# Altium schematic symbol library Interface.SchLib: 40 symbols
Pins are listed as number, name and electrical type; pins without a type are passive.

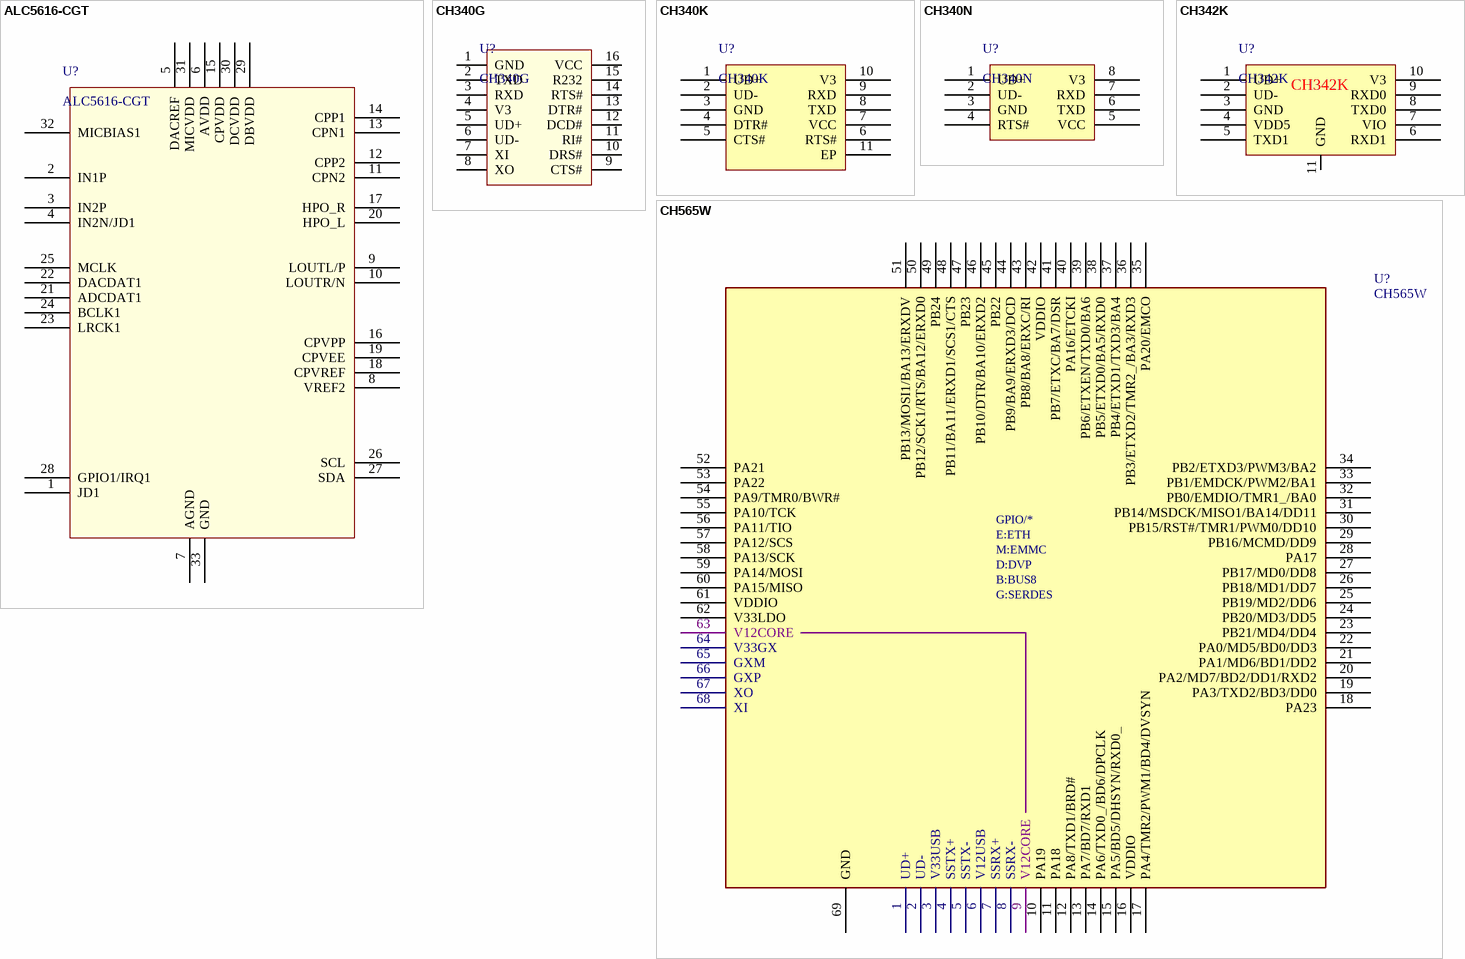
[diagram p0: symbols ALC5616-CGT to CH565W]

## ALC5616-CGT
designator U?
footprint QFN-32-1EP_4x4mm_P0.4mm_EP2.7x2.7mm_ThermalVias (QFN, 32-Leads, Body 4.00x4.00mm, Pitch 0.40mm, Thermal Pad 2.70x2.70mm, IPC Low Density)
pins: 1 JD1, 2 IN1P, 3 IN2P, 4 IN2N/JD1, 5 DACREF, 6 AVDD, 7 AGND, 8 VREF2, 9 LOUTL/P, 10 LOUTR/N, 11 CPN2, 12 CPP2, 13 CPN1, 14 CPP1, 15 CPVDD, 16 CPVPP, 17 HPO_R, 18 CPVREF, 19 CPVEE, 20 HPO_L, 21 ADCDAT1, 22 DACDAT1, 23 LRCK1, 24 BCLK1, 25 MCLK, 26 SCL, 27 SDA, 28 GPIO1/IRQ1, 29 DBVDD, 30 DCVDD, 31 MICVDD, 32 MICBIAS1, 33 GND

## CH340G
designator U?
USB转串口
footprint SO-16_3.9mm_P1.27mm (SOIC, 16-Leads, Body 9.90x3.90mm, Pitch 1.27mm, IPC Medium Density)
pins: 1 GND, 2 TXD, 3 RXD, 4 V3, 5 UD+, 6 UD-, 7 XI, 8 XO, 9 CTS#, 10 DRS#, 11 RI#, 12 DCD#, 13 DTR#, 14 RTS#, 15 R232, 16 VCC

## CH340K
designator U?
USB 转串口芯片 CH340
footprint SSOP-10_L5.0-W3.9-P1.00-LS6.0-BL-EP
pins: 1 UD+, 2 UD-, 3 GND, 4 DTR#, 5 CTS#, 6 RTS#, 7 VCC, 8 TXD, 9 RXD, 10 V3, 11 EP

## CH340N
designator U?
USB 转串口芯片 CH340
footprint SO-8_3.9x4.9mm_P1.27mm (SOIC, 8-Leads, Body 4.9x3.90mm, Pitch 1.27mm, IPC Medium Density)
pins: 1 UD+, 2 UD-, 3 GND, 4 RTS#, 5 VCC, 6 TXD, 7 RXD, 8 V3

## CH342K
designator U?
USB 转双串口芯片 CH342
footprint SSOP-10_L5.0-W3.9-P1.00-LS6.0-BL-EP
pins: 1 UD+, 2 UD-, 3 GND, 4 VDD5, 5 TXD1, 6 RXD1, 7 VIO, 8 TXD0, 9 RXD0, 10 V3, 11 GND

## CH565W
designator U?
32bit RISC-V MCU with USB 3.0 SS/HS & 4*UART & ETH & DVP
footprint QFN-68_L8.0-W8.0-P0.40-BL-EP6.0
pins: 1 UD+, 2 UD-, 3 V33USB, 4 SSTX+, 5 SSTX-, 6 V12USB, 7 SSRX+, 8 SSRX-, 9 V12CORE, 10 PA19, 11 PA18, 12 PA8/TXD1/BRD#, 13 PA7/BD7/RXD1, 14 PA6/TXD0_/BD6/DPCLK, 15 PA5/BD5/DHSYN/RXD0_, 16 VDDIO, 17 PA4/TMR2/PWM1/BD4/DVSYN, 18 PA23, 19 PA3/TXD2/BD3/DD0, 20 PA2/MD7/BD2/DD1/RXD2, 21 PA1/MD6/BD1/DD2, 22 PA0/MD5/BD0/DD3, 23 PB21/MD4/DD4, 24 PB20/MD3/DD5, 25 PB19/MD2/DD6, 26 PB18/MD1/DD7, 27 PB17/MD0/DD8, 28 PA17, 29 PB16/MCMD/DD9, 30 PB15/RST#/TMR1/PWM0/DD10, 31 PB14/MSDCK/MISO1/BA14/DD11, 32 PB0/EMDIO/TMR1_/BA0, 33 PB1/EMDCK/PWM2/BA1, 34 PB2/ETXD3/PWM3/BA2, 35 PA20/EMCO, 36 PB3/ETXD2/TMR2_/BA3/RXD3, 37 PB4/ETXD1/TXD3/BA4, 38 PB5/ETXD0/BA5/RXD0, 39 PB6/ETXEN/TXD0/BA6, 40 PA16/ETCKI, 41 PB7/ETXC/BA7/DSR, 42 VDDIO, 43 PB8/BA8/ERXC/RI, 44 PB9/BA9/ERXD3/DCD, 45 PB22, 46 PB10/DTR/BA10/ERXD2, 47 PB23, 48 PB11/BA11/ERXD1/SCS1/CTS, 49 PB24, 50 PB12/SCK1/RTS/BA12/ERXD0, 51 PB13/MOSI1/BA13/ERXDV, 52 PA21, 53 PA22, 54 PA9/TMR0/BWR#, 55 PA10/TCK, 56 PA11/TIO, 57 PA12/SCS, 58 PA13/SCK, 59 PA14/MOSI, 60 PA15/MISO, 61 VDDIO, 62 V33LDO, 63 V12CORE, 64 V33GX, 65 GXM, 66 GXP, 67 XO, 68 XI, 69 GND (power)
2 alternate drawings of the same symbol
text: GPIO/*; E:ETH; M:EMMC; D:DVP; B:BUS8; G:SERDES

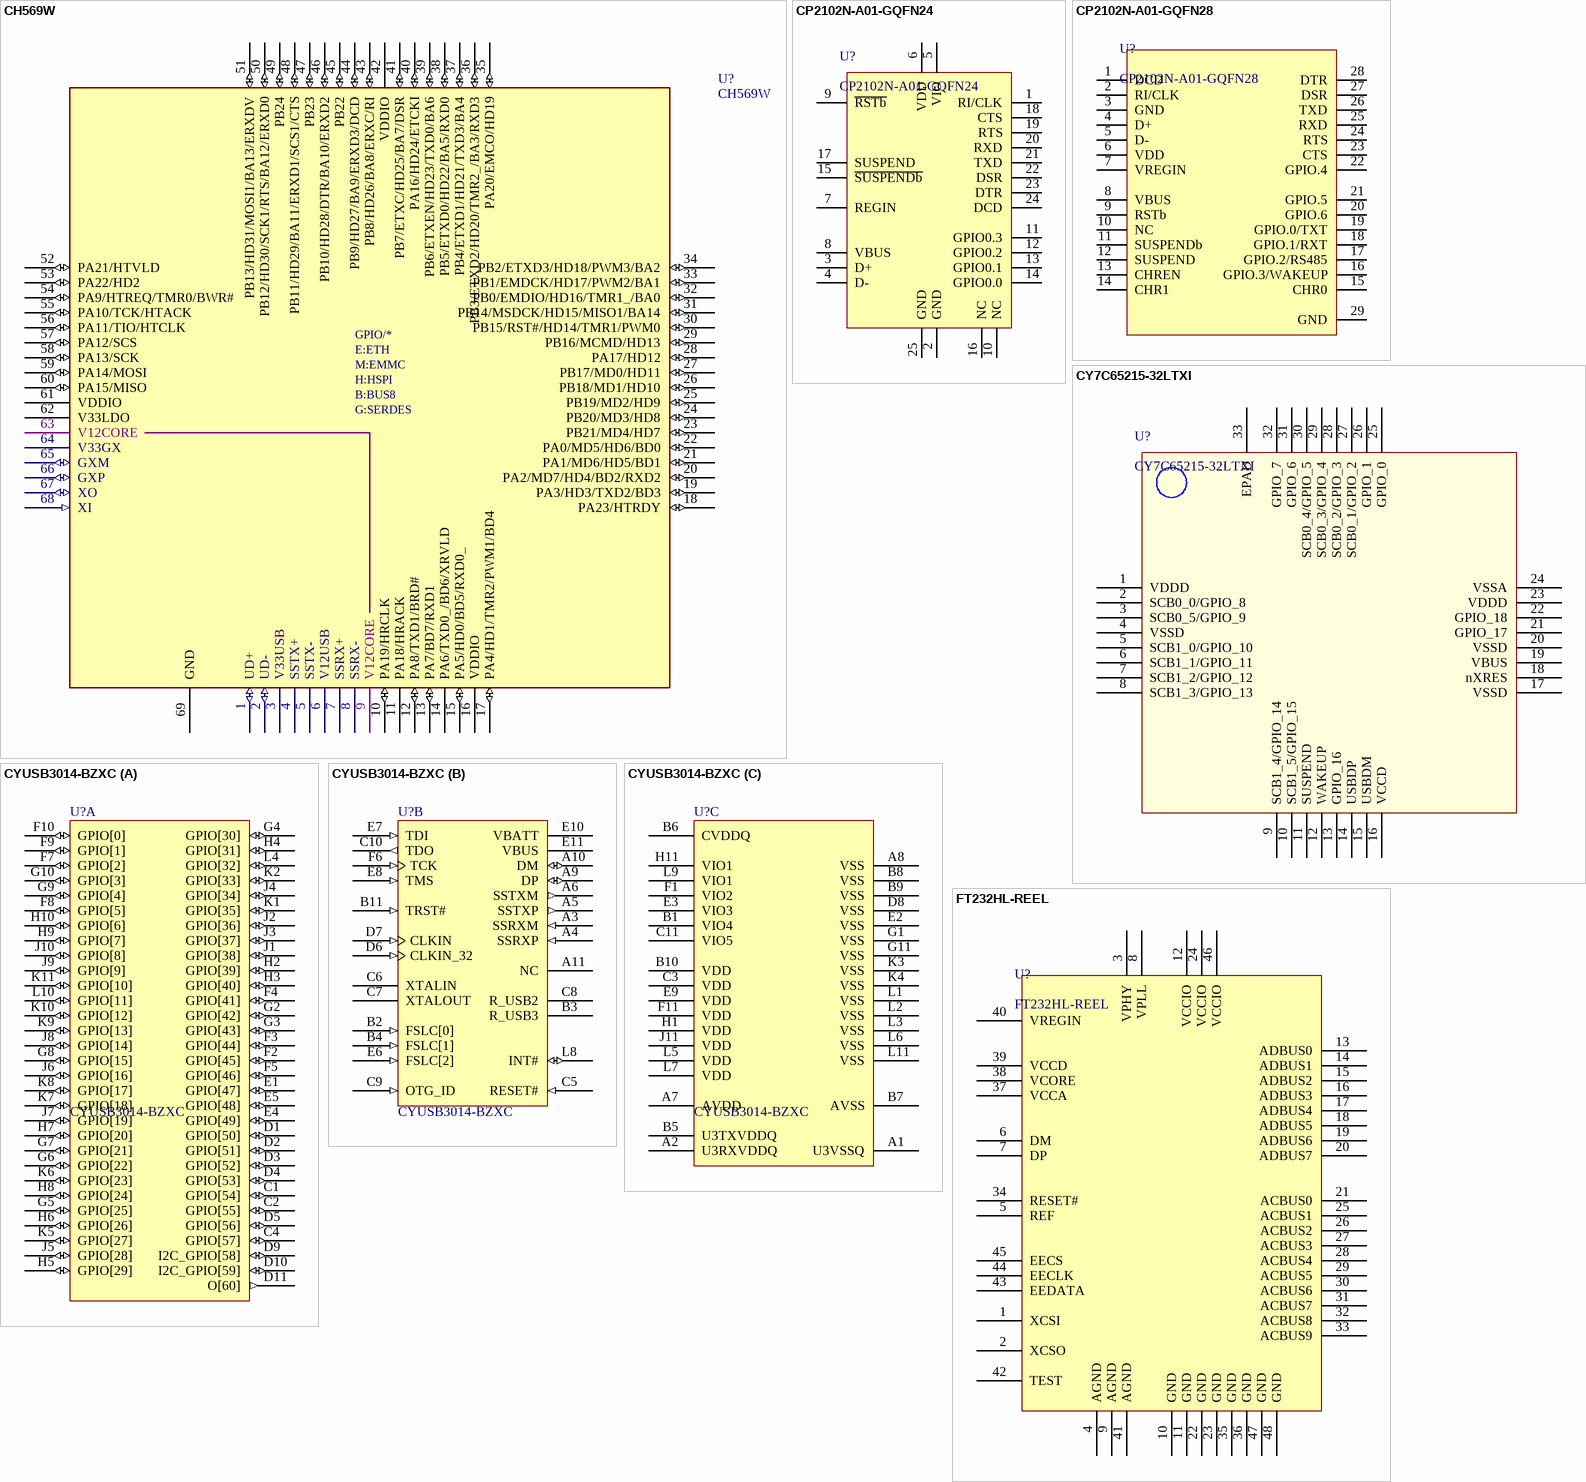
[diagram p1: symbols CH569W to FT232HL-REEL]

## CH569W
designator U?
32bit RISC-V MCU with USB 3.0 SS/HS & 4*UART & ETH & HSPI
footprint QFN-68_L8.0-W8.0-P0.40-BL-EP6.0
pins: 1 UD+ (io), 2 UD- (io), 3 V33USB (power), 4 SSTX+, 5 SSTX-, 6 V12USB (power), 7 SSRX+, 8 SSRX-, 9 V12CORE (power), 10 PA19/HRCLK (io), 11 PA18/HRACK, 12 PA8/TXD1/BRD# (io), 13 PA7/BD7/RXD1 (io), 14 PA6/TXD0_/BD6/XRVLD, 15 PA5/HD0/BD5/RXD0_ (io), 16 VDDIO (power), 17 PA4/HD1/TMR2/PWM1/BD4 (io), 18 PA23/HTRDY (io), 19 PA3/HD3/TXD2/BD3 (io), 20 PA2/MD7/HD4/BD2/RXD2 (io), 21 PA1/MD6/HD5/BD1 (io), 22 PA0/MD5/HD6/BD0 (io), 23 PB21/MD4/HD7 (io), 24 PB20/MD3/HD8 (io), 25 PB19/MD2/HD9 (io), 26 PB18/MD1/HD10 (io), 27 PB17/MD0/HD11 (io), 28 PA17/HD12 (io), 29 PB16/MCMD/HD13 (io), 30 PB15/RST#/HD14/TMR1/PWM0 (io), 31 PB14/MSDCK/HD15/MISO1/BA14 (io), 32 PB0/EMDIO/HD16/TMR1_/BA0 (io), 33 PB1/EMDCK/HD17/PWM2/BA1 (io), 34 PB2/ETXD3/HD18/PWM3/BA2 (io), 35 PA20/EMCO/HD19 (io), 36 PB3/ETXD2/HD20/TMR2_/BA3/RXD3 (io), 37 PB4/ETXD1/HD21/TXD3/BA4 (io), 38 PB5/ETXD0/HD22/BA5/RXD0 (io), 39 PB6/ETXEN/HD23/TXD0/BA6 (io), 40 PA16/HD24/ETCKI (io), 41 PB7/ETXC/HD25/BA7/DSR (io), 42 VDDIO (power), 43 PB8/HD26/BA8/ERXC/RI (io), 44 PB9/HD27/BA9/ERXD3/DCD (io), 45 PB22 (io), 46 PB10/HD28/DTR/BA10/ERXD2 (io), 47 PB23 (io), 48 PB11/HD29/BA11/ERXD1/SCS1/CTS (io), 49 PB24 (io), 50 PB12/HD30/SCK1/RTS/BA12/ERXD0 (io), 51 PB13/HD31/MOSI1/BA13/ERXDV (io), 52 PA21/HTVLD (io), 53 PA22/HD2 (io), 54 PA9/HTREQ/TMR0/BWR# (io), 55 PA10/TCK/HTACK (io), 56 PA11/TIO/HTCLK (io), 57 PA12/SCS (io), 58 PA13/SCK (io), 59 PA14/MOSI (io), 60 PA15/MISO (io), 61 VDDIO (power), 62 V33LDO (power), 63 V12CORE (power), 64 V33GX (power), 65 GXM (io), 66 GXP (io), 67 XO (io), 68 XI (in), 69 GND (power)
2 alternate drawings of the same symbol
text: GPIO/*; E:ETH; M:EMMC; H:HSPI; B:BUS8; G:SERDES

## CP2102N-A01-GQFN24
designator U?
USB to UART master bridge, QFN-24
footprint QFN-24-1EP_4x4_P0.5mm_EP2.45x2.45mm (QFN, 24-Leads, Body 4.00x4.00mm, Pitch 0.50mm, Thermal Pad 2.45x2.45mm, IPC Low Density)
pins: 1 RI/CLK, 2 GND, 3 D+, 4 D-, 5 VIO, 6 VDD, 7 REGIN, 8 VBUS, 9 ~{RSTb}, 10 NC, 11 GPIO0.3, 12 GPIO0.2, 13 GPIO0.1, 14 GPIO0.0, 15 ~{SUSPENDb}, 16 NC, 17 SUSPEND, 18 CTS, 19 RTS, 20 RXD, 21 TXD, 22 DSR, 23 DTR, 24 DCD, 25 GND

## CP2102N-A01-GQFN28
designator U?
USB to UART master bridge, QFN-28
footprint QFN-28-1EP_5x5mm_P0.5mm_EP3.35x3.35mm (QFN, 28-Leads, Body 5.00x5.00mm, Pitch 0.50mm, Thermal Pad 3.25x3.25mm, IPC Low Density)
pins: 1 DCD, 2 RI/CLK, 3 GND, 4 D+, 5 D-, 6 VDD, 7 VREGIN, 8 VBUS, 9 RSTb, 10 NC, 11 SUSPENDb, 12 SUSPEND, 13 CHREN, 14 CHR1, 15 CHR0, 16 GPIO.3/WAKEUP, 17 GPIO.2/RS485, 18 GPIO.1/RXT, 19 GPIO.0/TXT, 20 GPIO.6, 21 GPIO.5, 22 GPIO.4, 23 CTS, 24 RTS, 25 RXD, 26 TXD, 27 DSR, 28 DTR, 29 GND

## CY7C65215-32LTXI
designator U?
带有 CapSense® 和 BCD 的双通道串行 USB （UART/I2C/SPI）桥接器
footprint QFN-32-1EP_5x5mm_P0.5mm_EP3.5x3.5mm_ThermalVia (QFN, 32-Leads, Body 5.00x5.00mm, Pitch 0.50mm, Thermal Pad 3.50x3.50mm, IPC Medium Density)
pins: 1 VDDD, 2 SCB0_0/GPIO_8, 3 SCB0_5/GPIO_9, 4 VSSD, 5 SCB1_0/GPIO_10, 6 SCB1_1/GPIO_11, 7 SCB1_2/GPIO_12, 8 SCB1_3/GPIO_13, 9 SCB1_4/GPIO_14, 10 SCB1_5/GPIO_15, 11 SUSPEND, 12 WAKEUP, 13 GPIO_16, 14 USBDP, 15 USBDM, 16 VCCD, 17 VSSD, 18 nXRES, 19 VBUS, 20 VSSD, 21 GPIO_17, 22 GPIO_18, 23 VDDD, 24 VSSA, 25 GPIO_0, 26 GPIO_1, 27 SCB0_1/GPIO_2, 28 SCB0_2/GPIO_3, 29 SCB0_3/GPIO_4, 30 SCB0_4/GPIO_5, 31 GPIO_6, 32 GPIO_7, 33 EPAD

## CYUSB3014-BZXC
designator U?
EZ-USB(R) FX3: SuperSpeed USB Controller, 512 KB, 60 I/Os, 0 to 70 degC, 121-Pin FBGA (BZX121); Manufacturer: Cypress; CPU Core: ARM926 EJ-S; Max. Operating Voltage (V): 1.25; Memory Architecture: SRAM; Memory Size (KB): 512; Min. Operating Voltage (V): 1.15; No. of I/Os: 60; DatasheetVersion: Rev. *O; PackageVersion: Rev. *D; PackageReference: BZX121; PackageDescription: 121-Ball FBGA, Body 10 x 10 mm, Pitch 0.8 mm; Supplier 1: Digi-Key; Supplier Part Number 1: 428-3182-ND; Supplier 2: Farnell; Supplier Part Number 2: 2355789; Supplier 3: Newark; Supplier Part Number 3: 54W7901; Supplier 4: Mouser; Supplier Part Number 4: 727-CYUSB3014-BZXC; Max. Operating Temp. (degreesC): 70; Min. Operating Temp. (degreesC): 0; RoHS: Pb-Free; Mounting Technology: Surface Mount; Code_JEDEC: PUB 95; PartNumber: CYUSB3014-BZXC; ComponentLink1Description: Manufacturer URL; ComponentLink1URL: http://www.cypress.com/; ComponentLink2Description: Datasheet; ComponentLink2URL: http://www.cypress.com/?docID=49087; ComponentLink3Description: Package Specification; ComponentLink3URL: http://www.cypress.com/?docID=45795
footprint BGA-121_L10.0-W10.0-R11-C11-P0.80-TL
part A pins: C1 GPIO[54] (io), C2 GPIO[55] (io), C4 GPIO[57] (io), D1 GPIO[50] (io), D2 GPIO[51] (io), D3 GPIO[52] (io), D4 GPIO[53] (io), D5 GPIO[56] (io), D9 I2C_GPIO[58] (io), D10 I2C_GPIO[59] (io), D11 O[60] (out), E1 GPIO[47] (io), E4 GPIO[49] (io), E5 GPIO[48] (io), F2 GPIO[45] (io), F3 GPIO[44] (io), F4 GPIO[41] (io), F5 GPIO[46] (io), F7 GPIO[2] (io), F8 GPIO[5] (io), F9 GPIO[1] (io), F10 GPIO[0] (io), G2 GPIO[42] (io), G3 GPIO[43] (io), G4 GPIO[30] (io), G5 GPIO[25] (io), G6 GPIO[22] (io), G7 GPIO[21] (io), G8 GPIO[15] (io), G9 GPIO[4] (io), G10 GPIO[3] (io), H2 GPIO[39] (io), H3 GPIO[40] (io), H4 GPIO[31] (io), H5 GPIO[29] (io), H6 GPIO[26] (io), H7 GPIO[20] (io), H8 GPIO[24] (io), H9 GPIO[7] (io), H10 GPIO[6] (io), J1 GPIO[38] (io), J2 GPIO[36] (io), J3 GPIO[37] (io), J4 GPIO[34] (io), J5 GPIO[28] (io), J6 GPIO[16] (io), J7 GPIO[19] (io), J8 GPIO[14] (io), J9 GPIO[9] (io), J10 GPIO[8] (io), K1 GPIO[35] (io), K2 GPIO[33] (io), K5 GPIO[27] (io), K6 GPIO[23] (io), K7 GPIO[18] (io), K8 GPIO[17] (io), K9 GPIO[13] (io), K10 GPIO[12] (io), K11 GPIO[10] (io), L4 GPIO[32] (io), L10 GPIO[11] (io)
part B pins: A3 SSRXM (in), A4 SSRXP (in), A5 SSTXP (out), A6 SSTXM (out), A9 DP (io), A10 DM (io), A11 NC, B2 FSLC[0] (in), B3 R_USB3, B4 FSLC[1] (in), B11 TRST# (in), C5 RESET# (in), C6 XTALIN, C7 XTALOUT, C8 R_USB2, C9 OTG_ID (in), C10 TDO (out), D6 CLKIN_32 (in), D7 CLKIN (in), E6 FSLC[2] (in), E7 TDI (in), E8 TMS (in), E10 VBATT (power), E11 VBUS (power), F6 TCK (in), L8 INT# (io)
part C pins: A1 U3VSSQ (power), A2 U3RXVDDQ (power), A7 AVDD (power), A8 VSS (power), B1 VIO4 (power), B5 U3TXVDDQ (power), B6 CVDDQ (power), B7 AVSS (power), B8 VSS (power), B9 VSS (power), B10 VDD (power), C3 VDD (power), C11 VIO5 (power), D8 VSS (power), E2 VSS (power), E3 VIO3 (power), E9 VDD (power), F1 VIO2 (power), F11 VDD (power), G1 VSS (power), G11 VSS (power), H1 VDD (power), H11 VIO1 (power), J11 VDD (power), K3 VSS (power), K4 VSS (power), L1 VSS (power), L2 VSS (power), L3 VSS (power), L5 VDD (power), L6 VSS (power), L7 VDD (power), L9 VIO1 (power), L11 VSS (power)

## FT232HL-REEL
designator U?
应用功能:USB转UART；USB转FIFO;接口协议:-;
footprint LQFP-48_7x7mm_P0.5mm (TSQFP, 48-Leads, Body 7.00x7.00mm, Pitch 0.50mm, IPC Medium Density)
pins: 1 XCSI, 2 XCSO, 3 VPHY, 4 AGND, 5 REF, 6 DM, 7 DP, 8 VPLL, 9 AGND, 10 GND, 11 GND, 12 VCCIO, 13 ADBUS0, 14 ADBUS1, 15 ADBUS2, 16 ADBUS3, 17 ADBUS4, 18 ADBUS5, 19 ADBUS6, 20 ADBUS7, 21 ACBUS0, 22 GND, 23 GND, 24 VCCIO, 25 ACBUS1, 26 ACBUS2, 27 ACBUS3, 28 ACBUS4, 29 ACBUS5, 30 ACBUS6, 31 ACBUS7, 32 ACBUS8, 33 ACBUS9, 34 RESET#, 35 GND, 36 GND, 37 VCCA, 38 VCORE, 39 VCCD, 40 VREGIN, 41 AGND, 42 TEST, 43 EEDATA, 44 EECLK, 45 EECS, 46 VCCIO, 47 GND, 48 GND

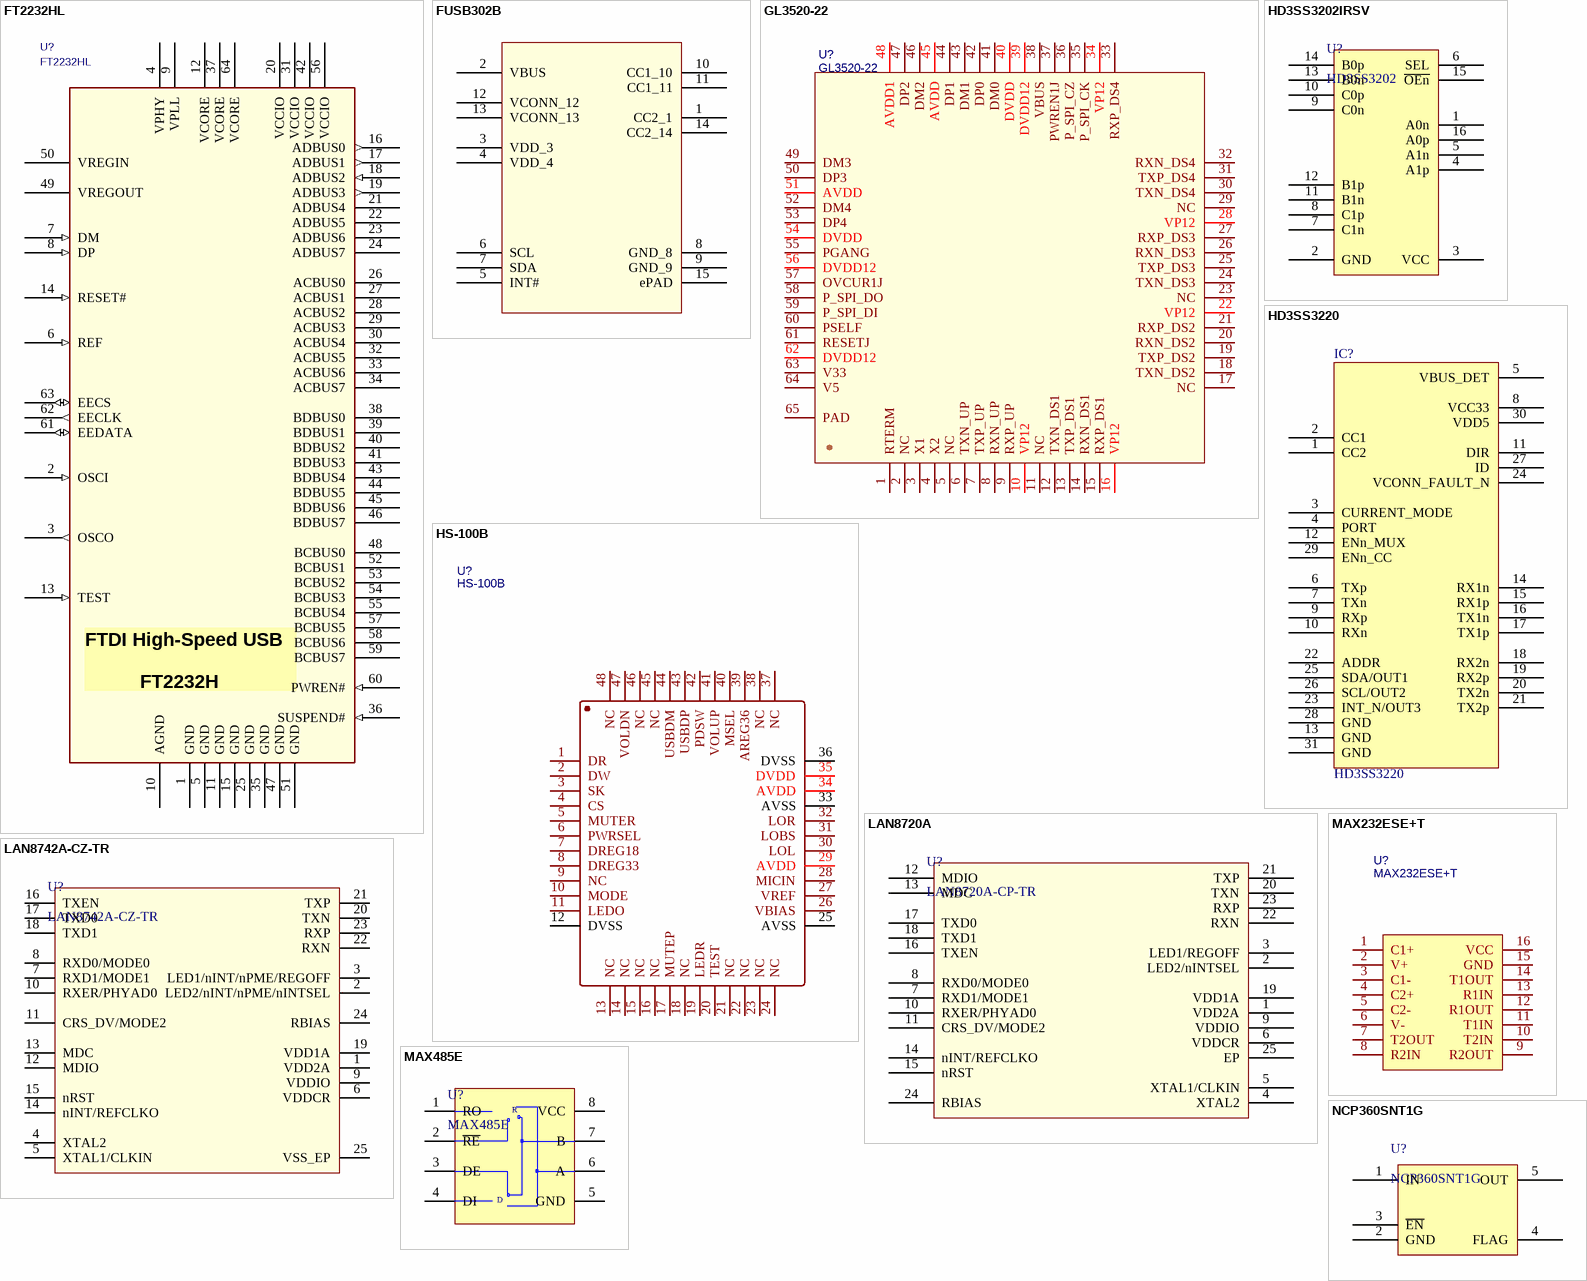
[diagram p2: symbols FT2232HL to NCP360SNT1G]

## FT2232HL
designator U?
USB to UART / FIFO; Manufacturer: FTDI; Class: IC; Manufacturer Part Number: FT2232HL; Digikey P/N: 768-1024-1-ND
footprint LQFP-64_10x10mm_P0.5mm (TSQFP, 64-Leads, Body 10.00x10.00mm, Pitch 0.50mm, IPC Medium Density)
pins: 1 GND (power), 2 OSCI (in), 3 OSCO (out), 4 VPHY (power), 5 GND (power), 6 REF (in), 7 DM (in), 8 DP (in), 9 VPLL (power), 10 AGND (power), 11 GND (power), 12 VCORE (power), 13 TEST (in), 14 RESET# (in), 15 GND (power), 16 ADBUS0 (out), 17 ADBUS1 (out), 18 ADBUS2 (in), 19 ADBUS3 (out), 20 VCCIO (power), 21 ADBUS4, 22 ADBUS5, 23 ADBUS6, 24 ADBUS7, 25 GND (power), 26 ACBUS0, 27 ACBUS1, 28 ACBUS2, 29 ACBUS3, 30 ACBUS4, 31 VCCIO (power), 32 ACBUS5, 33 ACBUS6, 34 ACBUS7, 35 GND (power), 36 SUSPEND# (in), 37 VCORE (power), 38 BDBUS0, 39 BDBUS1, 40 BDBUS2, 41 BDBUS3, 42 VCCIO (power), 43 BDBUS4, 44 BDBUS5, 45 BDBUS6, 46 BDBUS7, 47 GND (power), 48 BCBUS0, 49 VREGOUT (power), 50 VREGIN (power), 51 GND (power), 52 BCBUS1, 53 BCBUS2, 54 BCBUS3, 55 BCBUS4, 56 VCCIO (power), 57 BCBUS5, 58 BCBUS6, 59 BCBUS7, 60 PWREN# (in), 61 EEDATA (io), 62 EECLK (out), 63 EECS (io), 64 VCORE (power)
text: FTDI High-Speed USB / FT2232H

## FUSB302B
designator U?, comment FUSB302BMPX  (value not drawn)
FUSB302B Programmable USB Type-C Controller w/PD
footprint MLP-14_L2.5-W2.5-P0.50-BL-EP
pins: 1 CC2_1, 2 VBUS, 3 VDD_3 (power), 4 VDD_4 (power), 5 INT#, 6 SCL, 7 SDA, 8 GND_8 (power), 9 GND_9 (power), 10 CC1_10, 11 CC1_11, 12 VCONN_12, 13 VCONN_13, 14 CC2_14, 15 ePAD (power)

## GL3520-22
designator U?
BOM_Manufacturer: GENESYS; BOM_Supplier: LCSC; BOM_Manufacturer Part: GL3520-22; BOM_Supplier Part: C112549; BOM_JLCPCB Part Class: Extended Part; spicePre: U; spiceSymbolName: GL3520-22
footprint QFN-64_L8.0-W8.0-P0.40-BL-EP
pins: 1 RTERM, 2 NC, 3 X1, 4 X2, 5 NC, 6 TXN_UP, 7 TXP_UP, 8 RXN_UP, 9 RXP_UP, 10 VP12, 11 NC, 12 TXN_DS1, 13 TXP_DS1, 14 RXN_DS1, 15 RXP_DS1, 16 VP12, 17 NC, 18 TXN_DS2, 19 TXP_DS2, 20 RXN_DS2, 21 RXP_DS2, 22 VP12, 23 NC, 24 TXN_DS3, 25 TXP_DS3, 26 RXN_DS3, 27 RXP_DS3, 28 VP12, 29 NC, 30 TXN_DS4, 31 TXP_DS4, 32 RXN_DS4, 33 RXP_DS4, 34 VP12, 35 P_SPI_CK, 36 P_SPI_CZ, 37 PWREN1J, 38 VBUS, 39 DVDD12, 40 DVDD, 41 DM0, 42 DP0, 43 DM1, 44 DP1, 45 AVDD, 46 DM2, 47 DP2, 48 AVDD1, 49 DM3, 50 DP3, 51 AVDD, 52 DM4, 53 DP4, 54 DVDD, 55 PGANG, 56 DVDD12, 57 OVCUR1J, 58 P_SPI_DO, 59 P_SPI_DI, 60 PSELF, 61 RESETJ, 62 DVDD12, 63 V33, 64 V5, 65 PAD

## HD3SS3202IRSV
designator U?, comment HD3SS3202
HD3SS3202 双通道差动 2:1/1:2 USB 3.1 多路复用器/多路信号分离器
footprint UQFN-16_L2.6-W1.8-P0.40-BL
pins: 1 A0n, 2 GND, 3 VCC, 4 A1p, 5 A1n, 6 SEL, 7 C1n, 8 C1p, 9 C0n, 10 C0p, 11 B1n, 12 B1p, 13 B0n, 14 B0p, 15 ~{OEn}, 16 A0p

## HD3SS3220
designator IC?
IC DRP PORT CTLR USB-C 30WQFN; Manufacturer: Texas Instruments; PartSymbol: HD3SS3220RNHT; PartNumber: HD3SS3220; Value: HD3SS3220
footprint WQFN-30_L4.5-W2.5-P0.4-BL-EP
pins: 1 CC2, 2 CC1, 3 CURRENT_MODE, 4 PORT, 5 VBUS_DET, 6 TXp, 7 TXn, 8 VCC33, 9 RXp, 10 RXn, 11 DIR, 12 ENn_MUX, 13 GND, 14 RX1n, 15 RX1p, 16 TX1n, 17 TX1p, 18 RX2n, 19 RX2p, 20 TX2n, 21 TX2p, 22 ADDR, 23 INT_N/OUT3, 24 VCONN_FAULT_N, 25 SDA/OUT1, 26 SCL/OUT2, 27 ID, 28 GND, 29 ENn_CC, 30 VDD5, 31 GND

## HS-100B
designator U?
BOM_Manufacturer: Cmedia; Contributor: LCSC; BOM_Supplier: LCSC; BOM_Supplier Part: C371351; BOM_Manufacturer Part: HS-100B; BOM_JLCPCB Part Class: Extended Part; spicePre: U; spiceSymbolName: HS-100B
footprint LQFP-48_7x7mm_P0.5mm (TSQFP, 48-Leads, Body 7.00x7.00mm, Pitch 0.50mm, IPC Medium Density)
pins: 1 DR, 2 DW, 3 SK, 4 CS, 5 MUTER, 6 PWRSEL, 7 DREG18, 8 DREG33, 9 NC, 10 MODE, 11 LEDO, 12 DVSS, 13 NC, 14 NC, 15 NC, 16 NC, 17 MUTEP, 18 NC, 19 LEDR, 20 TEST, 21 NC, 22 NC, 23 NC, 24 NC, 25 AVSS, 26 VBIAS, 27 VREF, 28 MICIN, 29 AVDD, 30 LOL, 31 LOBS, 32 LOR, 33 AVSS, 34 AVDD, 35 DVDD, 36 DVSS, 37 NC, 38 NC, 39 AREG36, 40 MSEL, 41 VOLUP, 42 PDSW, 43 USBDP, 44 USBDM, 45 NC, 46 NC, 47 VOLDN, 48 NC

## LAN8720A
designator U?, comment LAN8720A-CP-TR
footprint QFN-24-1EP_4x4_P0.5mm_EP2.45x2.45mm (QFN, 24-Leads, Body 4.00x4.00mm, Pitch 0.50mm, Thermal Pad 2.45x2.45mm, IPC Low Density)
pins: 1 VDD2A, 2 LED2/nINTSEL, 3 LED1/REGOFF, 4 XTAL2, 5 XTAL1/CLKIN, 6 VDDCR, 7 RXD1/MODE1, 8 RXD0/MODE0, 9 VDDIO, 10 RXER/PHYAD0, 11 CRS_DV/MODE2, 12 MDIO, 13 MDC, 14 nINT/REFCLKO, 15 nRST, 16 TXEN, 17 TXD0, 18 TXD1, 19 VDD1A, 20 TXN, 21 TXP, 22 RXN, 23 RXP, 24 RBIAS, 25 EP

## LAN8742A-CZ-TR
designator U?
footprint QFN-24-1EP_4x4_P0.5mm_EP2.45x2.45mm (QFN, 24-Leads, Body 4.00x4.00mm, Pitch 0.50mm, Thermal Pad 2.45x2.45mm, IPC Low Density)
pins: 1 VDD2A, 2 LED2/nINT/nPME/nINTSEL, 3 LED1/nINT/nPME/REGOFF, 4 XTAL2, 5 XTAL1/CLKIN, 6 VDDCR, 7 RXD1/MODE1, 8 RXD0/MODE0, 9 VDDIO, 10 RXER/PHYAD0, 11 CRS_DV/MODE2, 12 MDIO, 13 MDC, 14 nINT/REFCLKO, 15 nRST, 16 TXEN, 17 TXD0, 18 TXD1, 19 VDD1A, 20 TXN, 21 TXP, 22 RXN, 23 RXP, 24 RBIAS, 25 VSS_EP

## MAX232ESE+T
designator U?
+5V供电 多通道RS-232驱动器/接收器; BOM_Manufacturer: EXAR; BOM_Manufacturer Part: SP3232EEN-L/TR; BOM_Supplier: LCSC; BOM_Supplier Part: C9378; BOM_JLCPCB Part Class: Extended Part; spicePre: U; spiceSymbolName: SP3232EEN-L/TR
footprint SO-16_3.9mm_P1.27mm (SOIC, 16-Leads, Body 9.90x3.90mm, Pitch 1.27mm, IPC Medium Density)
pins: 1 C1+, 2 V+, 3 C1-, 4 C2+, 5 C2-, 6 V-, 7 T2OUT, 8 R2IN, 9 R2OUT, 10 T2IN, 11 T1IN, 12 R1OUT, 13 R1IN, 14 T1OUT, 15 GND, 16 VCC

## MAX485E
designator U?
Half duplex RS-485/RS-422, 2.5 Mbps, ±15kV electro-static discharge (ESD) protection, no slew-rate, with low-power shutdown, with receiver/driver enable, 32 receiver drive kapacitity, DIP-8 and SOIC-8
footprint SO-8_3.9x4.9mm_P1.27mm (SOIC, 8-Leads, Body 4.9x3.90mm, Pitch 1.27mm, IPC Medium Density)
pins: 1 RO, 2 ~{RE}, 3 DE, 4 DI, 5 GND (power), 6 A, 7 B, 8 VCC (power)
text: R; D

## NCP360SNT1G
designator U?
USB正向过压保护控制器，内置PMOS FET和状态标志
footprint TSOP-5_L3.0-W1.5-P0.95-LS2.8-BR
pins: 1 IN, 2 GND, 3 ~{EN}, 4 FLAG, 5 OUT

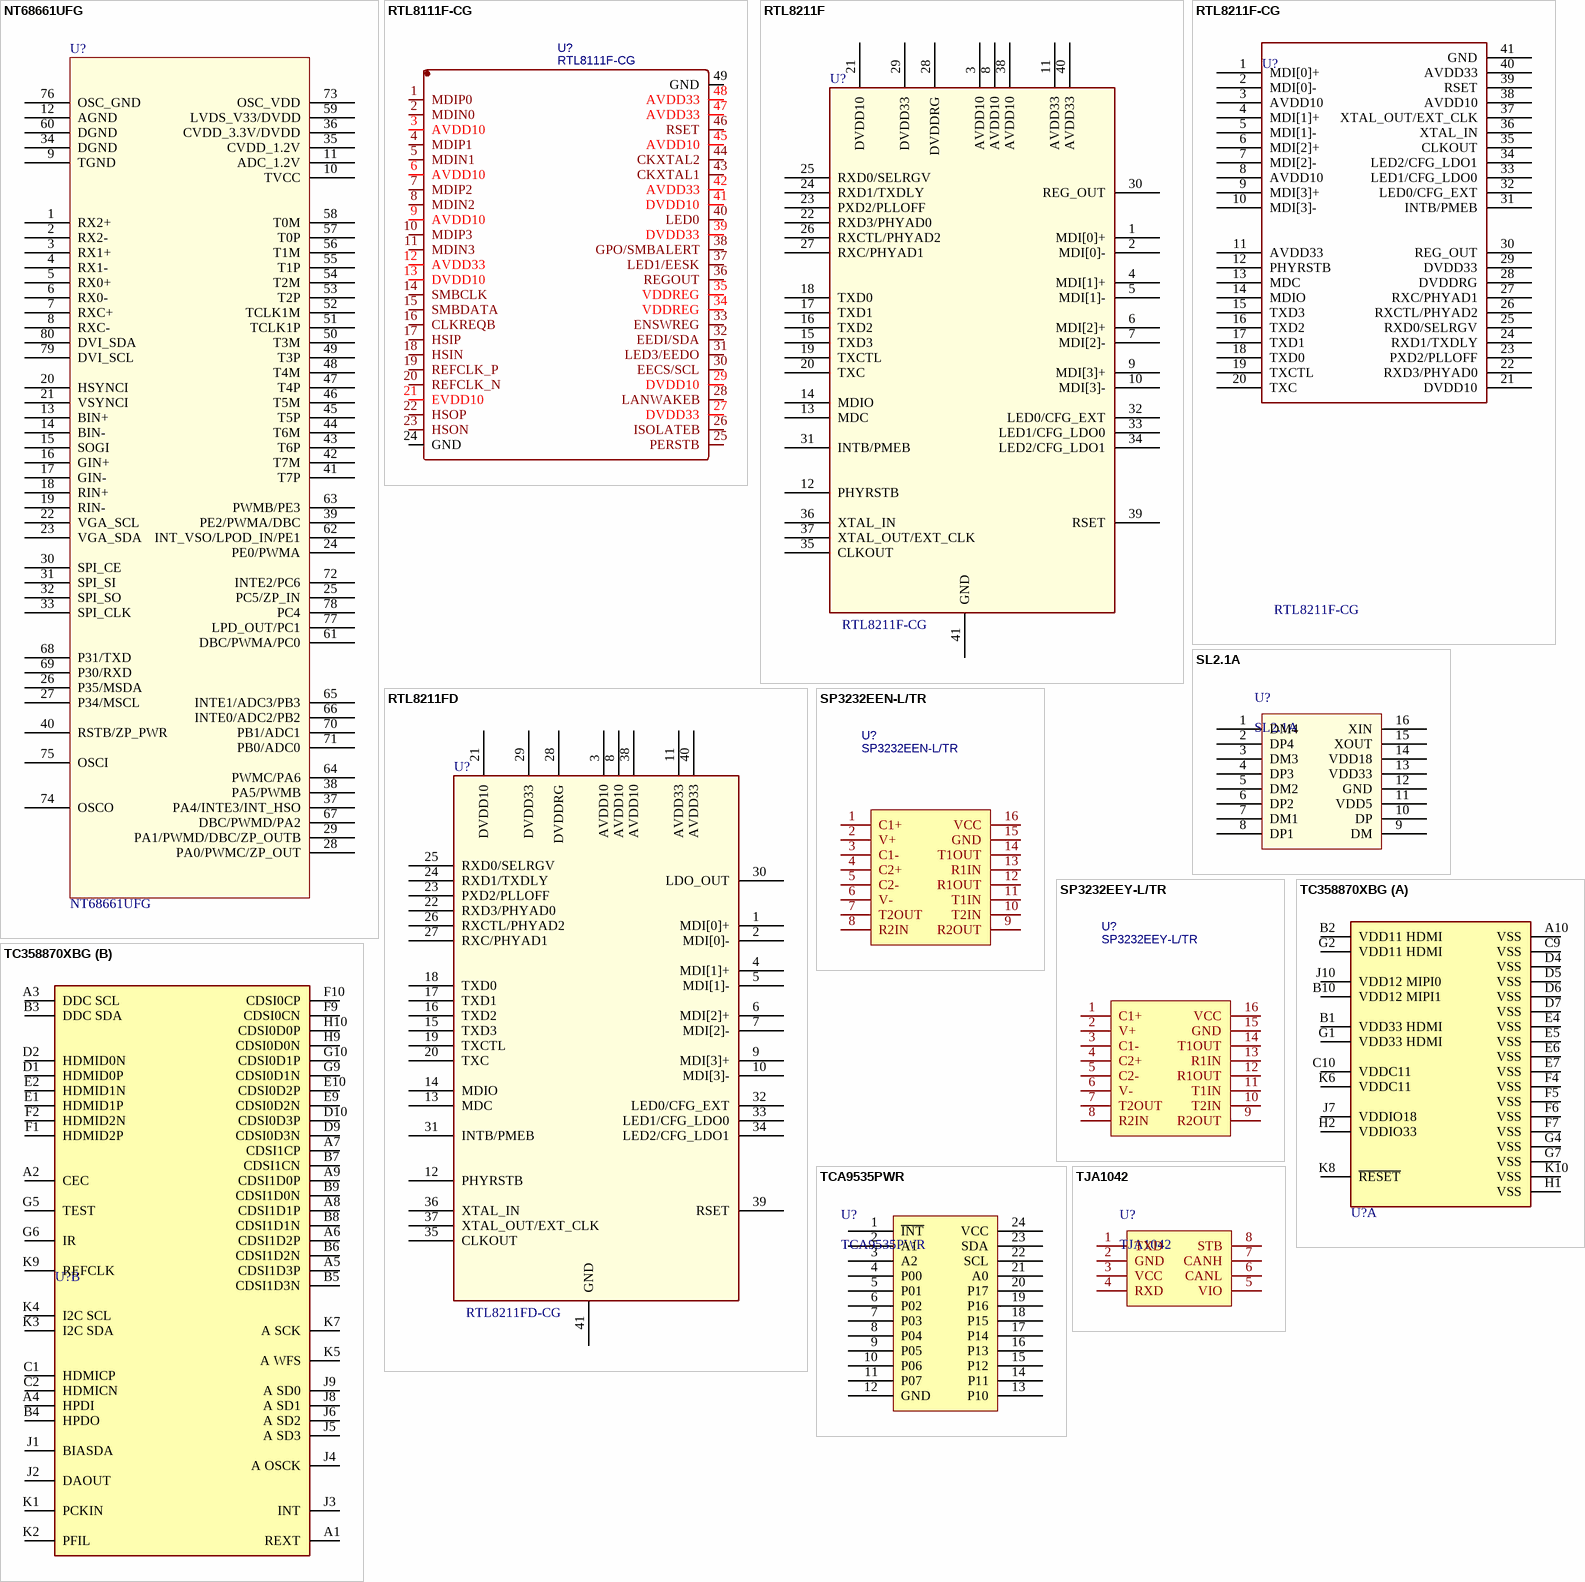
[diagram p3: symbols NT68661UFG to TJA1042]

## NT68661UFG
designator U?
HDMI to LVDS converter
footprint QFP127P600-8N
pins: 1 RX2+, 2 RX2-, 3 RX1+, 4 RX1-, 5 RX0+, 6 RX0-, 7 RXC+, 8 RXC-, 9 TGND, 10 TVCC, 11 ADC_1.2V, 12 AGND, 13 BIN+, 14 BIN-, 15 SOGI, 16 GIN+, 17 GIN-, 18 RIN+, 19 RIN-, 20 HSYNCI, 21 VSYNCI, 22 VGA_SCL, 23 VGA_SDA, 24 PE0/PWMA, 25 PC5/ZP_IN, 26 P35/MSDA, 27 P34/MSCL, 28 PA0/PWMC/ZP_OUT, 29 PA1/PWMD/DBC/ZP_OUTB, 30 SPI_CE, 31 SPI_SI, 32 SPI_SO, 33 SPI_CLK, 34 DGND, 35 CVDD_1.2V, 36 CVDD_3.3V/DVDD, 37 PA4/INTE3/INT_HSO, 38 PA5/PWMB, 39 PE2/PWMA/DBC, 40 RSTB/ZP_PWR, 41 T7P, 42 T7M, 43 T6P, 44 T6M, 45 T5P, 46 T5M, 47 T4P, 48 T4M, 49 T3P, 50 T3M, 51 TCLK1P, 52 TCLK1M, 53 T2P, 54 T2M, 55 T1P, 56 T1M, 57 T0P, 58 T0M, 59 LVDS_V33/DVDD, 60 DGND, 61 DBC/PWMA/PC0, 62 INT_VSO/LPOD_IN/PE1, 63 PWMB/PE3, 64 PWMC/PA6, 65 INTE1/ADC3/PB3, 66 INTE0/ADC2/PB2, 67 DBC/PWMD/PA2, 68 P31/TXD, 69 P30/RXD, 70 PB1/ADC1, 71 PB0/ADC0, 72 INTE2/PC6, 73 OSC_VDD, 74 OSCO, 75 OSCI, 76 OSC_GND, 77 LPD_OUT/PC1, 78 PC4, 79 DVI_SCL, 80 DVI_SDA

## RTL8111F-CG
designator U?
BOM_Manufacturer: Realtek Semicon; Contributor: LCSC; BOM_Supplier: LCSC; BOM_Supplier Part: C220087; BOM_Manufacturer Part: RTL8111F-CG; BOM_JLCPCB Part Class: Extended Part; spicePre: U; spiceSymbolName: RTL8111F-CG
footprint QFN-48-1EP_6x6mm_P0.4mm_EP3.8x3.8mm_ThermalVias (QFN, 48-Leads, Body 6.00x6.00mm, Pitch 0.40mm, Thermal Pad 3.80x3.80mm, IPC Medium Density)
pins: 1 MDIP0, 2 MDIN0, 3 AVDD10, 4 MDIP1, 5 MDIN1, 6 AVDD10, 7 MDIP2, 8 MDIN2, 9 AVDD10, 10 MDIP3, 11 MDIN3, 12 AVDD33, 13 DVDD10, 14 SMBCLK, 15 SMBDATA, 16 CLKREQB, 17 HSIP, 18 HSIN, 19 REFCLK_P, 20 REFCLK_N, 21 EVDD10, 22 HSOP, 23 HSON, 24 GND, 25 PERSTB, 26 ISOLATEB, 27 DVDD33, 28 LANWAKEB, 29 DVDD10, 30 EECS/SCL, 31 LED3/EEDO, 32 EEDI/SDA, 33 ENSWREG, 34 VDDREG, 35 VDDREG, 36 REGOUT, 37 LED1/EESK, 38 GPO/SMBALERT, 39 DVDD33, 40 LED0, 41 DVDD10, 42 AVDD33, 43 CKXTAL1, 44 CKXTAL2, 45 AVDD10, 46 RSET, 47 AVDD33, 48 AVDD33, 49 GND

## RTL8211F
designator U?, comment RTL8211F-CG
INTEGRATED 10/100/1000M ETHERNET PRECISION TRANSCEIVER
footprint QFN-40_1EP_5x5mm_P0.4mm-EP3.5x3.5mm (QFN, 40-Leads, Body 5.00x5.00mm, Pitch 0.40mm, Thermal Pad 3.70x3.70mm, IPC High Density)
pins: 1 MDI[0]+, 2 MDI[0]-, 3 AVDD10 (power), 4 MDI[1]+, 5 MDI[1]-, 6 MDI[2]+, 7 MDI[2]-, 8 AVDD10 (power), 9 MDI[3]+, 10 MDI[3]-, 11 AVDD33 (power), 12 PHYRSTB, 13 MDC, 14 MDIO, 15 TXD3, 16 TXD2, 17 TXD1, 18 TXD0, 19 TXCTL, 20 TXC, 21 DVDD10 (power), 22 RXD3/PHYAD0, 23 PXD2/PLLOFF, 24 RXD1/TXDLY, 25 RXD0/SELRGV, 26 RXCTL/PHYAD2, 27 RXC/PHYAD1, 28 DVDDRG, 29 DVDD33 (power), 30 REG_OUT, 31 INTB/PMEB, 32 LED0/CFG_EXT, 33 LED1/CFG_LDO0, 34 LED2/CFG_LDO1, 35 CLKOUT, 36 XTAL_IN, 37 XTAL_OUT/EXT_CLK, 38 AVDD10 (power), 39 RSET, 40 AVDD33 (power), 41 GND

## RTL8211F-CG
designator U?
INTEGRATED 10/100/1000M ETHERNET PRECISION TRANSCEIVER
footprint QFN-40_1EP_5x5mm_P0.4mm-EP3.5x3.5mm (QFN, 40-Leads, Body 5.00x5.00mm, Pitch 0.40mm, Thermal Pad 3.70x3.70mm, IPC High Density)
pins: 1 MDI[0]+, 2 MDI[0]-, 3 AVDD10 (power), 4 MDI[1]+, 5 MDI[1]-, 6 MDI[2]+, 7 MDI[2]-, 8 AVDD10 (power), 9 MDI[3]+, 10 MDI[3]-, 11 AVDD33 (power), 12 PHYRSTB, 13 MDC, 14 MDIO, 15 TXD3, 16 TXD2, 17 TXD1, 18 TXD0, 19 TXCTL, 20 TXC, 21 DVDD10 (power), 22 RXD3/PHYAD0, 23 PXD2/PLLOFF, 24 RXD1/TXDLY, 25 RXD0/SELRGV, 26 RXCTL/PHYAD2, 27 RXC/PHYAD1, 28 DVDDRG, 29 DVDD33 (power), 30 REG_OUT, 31 INTB/PMEB, 32 LED0/CFG_EXT, 33 LED1/CFG_LDO0, 34 LED2/CFG_LDO1, 35 CLKOUT, 36 XTAL_IN, 37 XTAL_OUT/EXT_CLK, 38 AVDD10 (power), 39 RSET, 40 AVDD33 (power), 41 GND

## RTL8211FD
designator U?, comment RTL8211FD-CG
INTEGRATED 10/100/1000M ETHERNET PRECISION TRANSCEIVER
footprint QFN-40_1EP_5x5mm_P0.4mm-EP3.5x3.5mm (QFN, 40-Leads, Body 5.00x5.00mm, Pitch 0.40mm, Thermal Pad 3.70x3.70mm, IPC High Density)
pins: 1 MDI[0]+, 2 MDI[0]-, 3 AVDD10 (power), 4 MDI[1]+, 5 MDI[1]-, 6 MDI[2]+, 7 MDI[2]-, 8 AVDD10 (power), 9 MDI[3]+, 10 MDI[3]-, 11 AVDD33 (power), 12 PHYRSTB, 13 MDC, 14 MDIO, 15 TXD3, 16 TXD2, 17 TXD1, 18 TXD0, 19 TXCTL, 20 TXC, 21 DVDD10 (power), 22 RXD3/PHYAD0, 23 PXD2/PLLOFF, 24 RXD1/TXDLY, 25 RXD0/SELRGV, 26 RXCTL/PHYAD2, 27 RXC/PHYAD1, 28 DVDDRG, 29 DVDD33 (power), 30 LDO_OUT, 31 INTB/PMEB, 32 LED0/CFG_EXT, 33 LED1/CFG_LDO0, 34 LED2/CFG_LDO1, 35 CLKOUT, 36 XTAL_IN, 37 XTAL_OUT/EXT_CLK, 38 AVDD10 (power), 39 RSET, 40 AVDD33 (power), 41 GND

## SL2.1A
designator U?
USB2.0 HUB 控制器集成电路
footprint SO-16_3.9mm_P1.27mm (SOIC, 16-Leads, Body 9.90x3.90mm, Pitch 1.27mm, IPC Medium Density)
pins: 1 DM4, 2 DP4, 3 DM3, 4 DP3, 5 DM2, 6 DP2, 7 DM1, 8 DP1, 9 DM, 10 DP, 11 VDD5, 12 GND, 13 VDD33, 14 VDD18, 15 XOUT, 16 XIN

## SP3232EEN-L/TR
designator U?
BOM_Manufacturer: EXAR; BOM_Supplier: LCSC; BOM_Manufacturer Part: SP3232EEN-L/TR; BOM_Supplier Part: C9378; BOM_JLCPCB Part Class: Extended Part; spicePre: U; spiceSymbolName: SP3232EEN-L/TR
footprint SO-16_3.9mm_P1.27mm (SOIC, 16-Leads, Body 9.90x3.90mm, Pitch 1.27mm, IPC Medium Density)
pins: 1 C1+, 2 V+, 3 C1-, 4 C2+, 5 C2-, 6 V-, 7 T2OUT, 8 R2IN, 9 R2OUT, 10 T2IN, 11 T1IN, 12 R1OUT, 13 R1IN, 14 T1OUT, 15 GND, 16 VCC

## SP3232EEY-L/TR
designator U?
BOM_Manufacturer: EXAR; BOM_Manufacturer Part: SP3232EEN-L/TR; BOM_Supplier: LCSC; BOM_Supplier Part: C9378; BOM_JLCPCB Part Class: Extended Part; spicePre: U; spiceSymbolName: SP3232EEN-L/TR
footprint SSOP-16_4.4x5mm_P0.65 (TSOP, 16-Leads, Body 5.00x4.40mm, Pitch 0.65mm, Thermal Pad 3.30x3.30mm, IPC Medium Density)
pins: 1 C1+, 2 V+, 3 C1-, 4 C2+, 5 C2-, 6 V-, 7 T2OUT, 8 R2IN, 9 R2OUT, 10 T2IN, 11 T1IN, 12 R1OUT, 13 R1IN, 14 T1OUT, 15 GND, 16 VCC

## TC358870XBG
designator U?  (value not drawn)
footprint BGA_7x7mm_P0.65mm_80P (BGA, 80-Leads, Body 7.00x7.00mmx1.00mm, Pitch 0.65mm)
part A pins: A10 VSS, B1 VDD33 HDMI, B2 VDD11 HDMI, B10 VDD12 MIPI1, C9 VSS, C10 VDDC11, D4 VSS, D5 VSS, D6 VSS, D7 VSS, E4 VSS, E5 VSS, E6 VSS, E7 VSS, F4 VSS, F5 VSS, F6 VSS, F7 VSS, G1 VDD33 HDMI, G2 VDD11 HDMI, G4 VSS, G7 VSS, H1 VSS, H2 VDDIO33, J7 VDDIO18, J10 VDD12 MIPI0, K6 VDDC11, K8 ~{RESET}, K10 VSS
part B pins: A1 REXT, A2 CEC, A3 DDC SCL, A4 HPDI, A5 CDSI1D3P, A6 CDSI1D2P, A7 CDSI1CP, A8 CDSI1D1P, A9 CDSI1D0P, B3 DDC SDA, B4 HPDO, B5 CDSI1D3N, B6 CDSI1D2N, B7 CDSI1CN, B8 CDSI1D1N, B9 CDSI1D0N, C1 HDMICP, C2 HDMICN, D1 HDMID0P, D2 HDMID0N, D9 CDSI0D3N, D10 CDSI0D3P, E1 HDMID1P, E2 HDMID1N, E9 CDSI0D2N, E10 CDSI0D2P, F1 HDMID2P, F2 HDMID2N, F9 CDSI0CN, F10 CDSI0CP, G5 TEST, G6 IR, G9 CDSI0D1N, G10 CDSI0D1P, H9 CDSI0D0N, H10 CDSI0D0P, J1 BIASDA, J2 DAOUT, J3 INT, J4 A OSCK, J5 A SD3, J6 A SD2, J8 A SD1, J9 A SD0, K1 PCKIN, K2 PFIL, K3 I2C SDA, K4 I2C SCL, K5 A WFS, K7 A SCK, K9 REFCLK

## TCA9535PWR
designator U?
TCA9535 具有中断输出和配置寄存器的低电压 16 位 I2C 和 SMBus 低功耗 I/O 扩展器
footprint TSSOP-24_7.8x4.4mm_P0.65mm (TSOP, 24-Leads, Body 7.80x4.40mm, Pitch 0.65mm, IPC Medium Density)
pins: 1 ~{INT}, 2 A1, 3 A2, 4 P00, 5 P01, 6 P02, 7 P03, 8 P04, 9 P05, 10 P06, 11 P07, 12 GND, 13 P10, 14 P11, 15 P12, 16 P13, 17 P14, 18 P15, 19 P16, 20 P17, 21 A0, 22 SCL, 23 SDA, 24 VCC

## TJA1042
designator U?
High-speed CAN transceiver with Standby mode
footprint SO-8_3.9x4.9mm_P1.27mm (SOIC, 8-Leads, Body 4.9x3.90mm, Pitch 1.27mm, IPC Medium Density)
pins: 1 TXD, 2 GND, 3 VCC, 4 RXD, 5 VIO, 6 CANL, 7 CANH, 8 STB

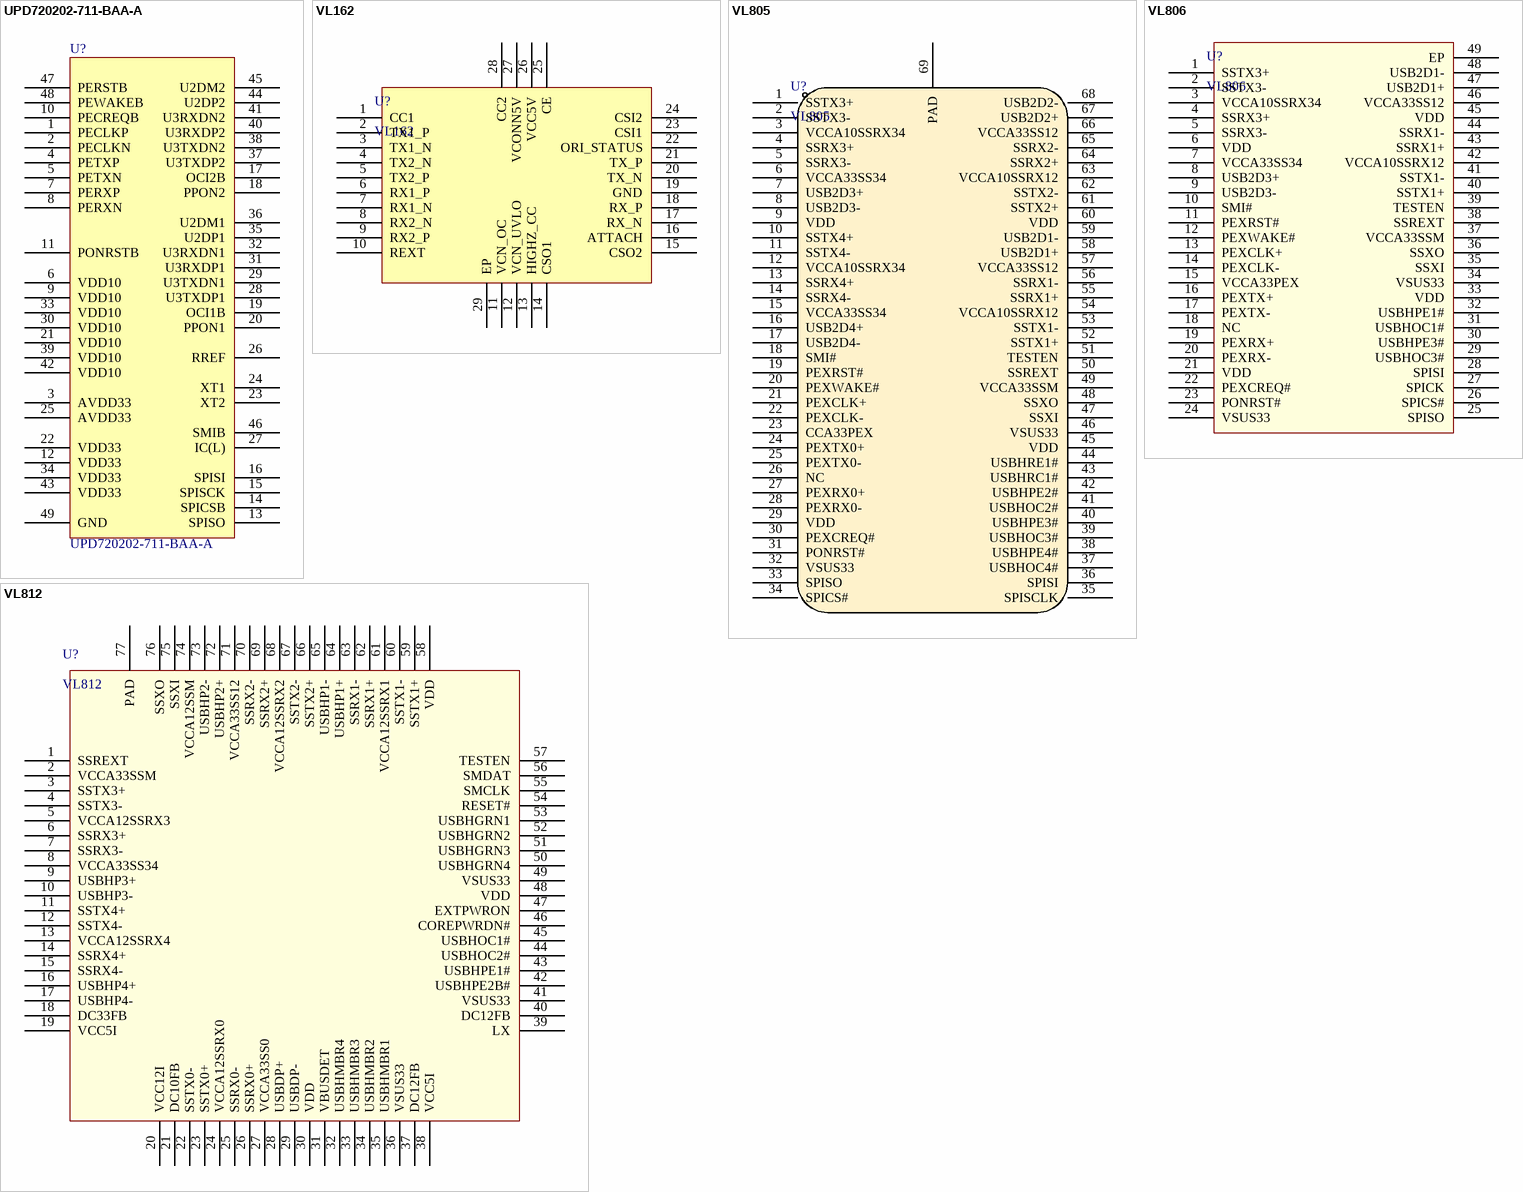
[diagram p4: symbols UPD720202-711-BAA-A to VL812]

## UPD720202-711-BAA-A
designator U?
PCIE2USB3
footprint QFN-48-1EP_7x7mm_P0.5mm_EP5.7x5.7mm_ThermalVias (QFN, 48-Leads, Body 7.00x7.00mm, Pitch 0.50mm, Thermal Pad 5.70x5.70mm, IPC Low Density)
footprint QFN-48-1EP_7x7mm_P0.5mm_EP5.5x5.5mm (QFN, 48-Leads, Body 7.00x7.00mm, Pitch 0.50mm, Thermal Pad 5.70x5.70mm, IPC Low Density)
pins: 1 PECLKP, 2 PECLKN, 3 AVDD33, 4 PETXP, 5 PETXN, 6 VDD10, 7 PERXP, 8 PERXN, 9 VDD10, 10 PECREQB, 11 PONRSTB, 12 VDD33, 13 SPISO, 14 SPICSB, 15 SPISCK, 16 SPISI, 17 OCI2B, 18 PPON2, 19 OCI1B, 20 PPON1, 21 VDD10, 22 VDD33, 23 XT2, 24 XT1, 25 AVDD33, 26 RREF, 27 IC(L), 28 U3TXDP1, 29 U3TXDN1, 30 VDD10, 31 U3RXDP1, 32 U3RXDN1, 33 VDD10, 34 VDD33, 35 U2DP1, 36 U2DM1, 37 U3TXDP2, 38 U3TXDN2, 39 VDD10, 40 U3RXDP2, 41 U3RXDN2, 42 VDD10, 43 VDD33, 44 U2DP2, 45 U2DM2, 46 SMIB, 47 PERSTB, 48 PEWAKEB, 49 GND

## VL162
designator U?
USB Type-C Data Switch with CC Function for USB 3.1 Gen2 (10Gbps)
footprint MQFN-28_L4.5-W3.5-P0.40-BL-EP
pins: 1 CC1, 2 TX1_P, 3 TX1_N, 4 TX2_N, 5 TX2_P, 6 RX1_P, 7 RX1_N, 8 RX2_N, 9 RX2_P, 10 REXT, 11 VCN_OC, 12 VCN_UVLO, 13 HIGHZ_CC, 14 CSO1, 15 CSO2, 16 ATTACH, 17 RX_N, 18 RX_P, 19 GND, 20 TX_N, 21 TX_P, 22 ORI_STATUS, 23 CSI1, 24 CSI2, 25 CE, 26 VCC5V, 27 VCONN5V, 28 CC2, 29 EP

## VL805
designator U?
footprint QFN-68_L8.0-W8.0-P0.40-BL-EP6.2
pins: 1 SSTX3+, 2 SSTX3-, 3 VCCA10SSRX34, 4 SSRX3+, 5 SSRX3-, 6 VCCA33SS34, 7 USB2D3+, 8 USB2D3-, 9 VDD, 10 SSTX4+, 11 SSTX4-, 12 VCCA10SSRX34, 13 SSRX4+, 14 SSRX4-, 15 VCCA33SS34, 16 USB2D4+, 17 USB2D4-, 18 SMI#, 19 PEXRST#, 20 PEXWAKE#, 21 PEXCLK+, 22 PEXCLK-, 23 CCA33PEX, 24 PEXTX0+, 25 PEXTX0-, 26 NC, 27 PEXRX0+, 28 PEXRX0-, 29 VDD, 30 PEXCREQ#, 31 PONRST#, 32 VSUS33, 33 SPISO, 34 SPICS#, 35 SPISCLK, 36 SPISI, 37 USBHOC4#, 38 USBHPE4#, 39 USBHOC3#, 40 USBHPE3#, 41 USBHOC2#, 42 USBHPE2#, 43 USBHRC1#, 44 USBHRE1#, 45 VDD, 46 VSUS33, 47 SSXI, 48 SSXO, 49 VCCA33SSM, 50 SSREXT, 51 TESTEN, 52 SSTX1+, 53 SSTX1-, 54 VCCA10SSRX12, 55 SSRX1+, 56 SSRX1-, 57 VCCA33SS12, 58 USB2D1+, 59 USB2D1-, 60 VDD, 61 SSTX2+, 62 SSTX2-, 63 VCCA10SSRX12, 64 SSRX2+, 65 SSRX2-, 66 VCCA33SS12, 67 USB2D2+, 68 USB2D2-, 69 PAD

## VL806
designator U?
footprint QFN-48_L7.0-W7.0-P0.50-BL-EP5.3
pins: 1 SSTX3+, 2 SSTX3-, 3 VCCA10SSRX34, 4 SSRX3+, 5 SSRX3-, 6 VDD, 7 VCCA33SS34, 8 USB2D3+, 9 USB2D3-, 10 SMI#, 11 PEXRST#, 12 PEXWAKE#, 13 PEXCLK+, 14 PEXCLK-, 15 VCCA33PEX, 16 PEXTX+, 17 PEXTX-, 18 NC, 19 PEXRX+, 20 PEXRX-, 21 VDD, 22 PEXCREQ#, 23 PONRST#, 24 VSUS33, 25 SPISO, 26 SPICS#, 27 SPICK, 28 SPISI, 29 USBHOC3#, 30 USBHPE3#, 31 USBHOC1#, 32 USBHPE1#, 33 VDD, 34 VSUS33, 35 SSXI, 36 SSXO, 37 VCCA33SSM, 38 SSREXT, 39 TESTEN, 40 SSTX1+, 41 SSTX1-, 42 VCCA10SSRX12, 43 SSRX1+, 44 SSRX1-, 45 VDD, 46 VCCA33SS12, 47 USB2D1+, 48 USB2D1-, 49 EP

## VL812
designator U?
Value: VL812
footprint QFN-76-1EP_9x9mm_P0.4mm_EP6.3x6.3mm_ThermalVias (QFN, 76-Leads, Body 9.00x9.00mm, Pitch 0.40mm, Thermal Pad 6.30x6.30mm, IPC Low Density)
pins: 1 SSREXT, 2 VCCA33SSM, 3 SSTX3+, 4 SSTX3-, 5 VCCA12SSRX3, 6 SSRX3+, 7 SSRX3-, 8 VCCA33SS34, 9 USBHP3+, 10 USBHP3-, 11 SSTX4+, 12 SSTX4-, 13 VCCA12SSRX4, 14 SSRX4+, 15 SSRX4-, 16 USBHP4+, 17 USBHP4-, 18 DC33FB, 19 VCC5I, 20 VCC12I, 21 DC10FB, 22 SSTX0-, 23 SSTX0+, 24 VCCA12SSRX0, 25 SSRX0-, 26 SSRX0+, 27 VCCA33SS0, 28 USBDP+, 29 USBDP-, 30 VDD, 31 VBUSDET, 32 USBHMBR4, 33 USBHMBR3, 34 USBHMBR2, 35 USBHMBR1, 36 VSUS33, 37 DC12FB, 38 VCC5I, 39 LX, 40 DC12FB, 41 VSUS33, 42 USBHPE2B#, 43 USBHPE1#, 44 USBHOC2#, 45 USBHOC1#, 46 COREPWRDN#, 47 EXTPWRON, 48 VDD, 49 VSUS33, 50 USBHGRN4, 51 USBHGRN3, 52 USBHGRN2, 53 USBHGRN1, 54 RESET#, 55 SMCLK, 56 SMDAT, 57 TESTEN, 58 VDD, 59 SSTX1+, 60 SSTX1-, 61 VCCA12SSRX1, 62 SSRX1+, 63 SSRX1-, 64 USBHP1+, 65 USBHP1-, 66 SSTX2+, 67 SSTX2-, 68 VCCA12SSRX2, 69 SSRX2+, 70 SSRX2-, 71 VCCA33SS12, 72 USBHP2+, 73 USBHP2-, 74 VCCA12SSM, 75 SSXI, 76 SSXO, 77 PAD

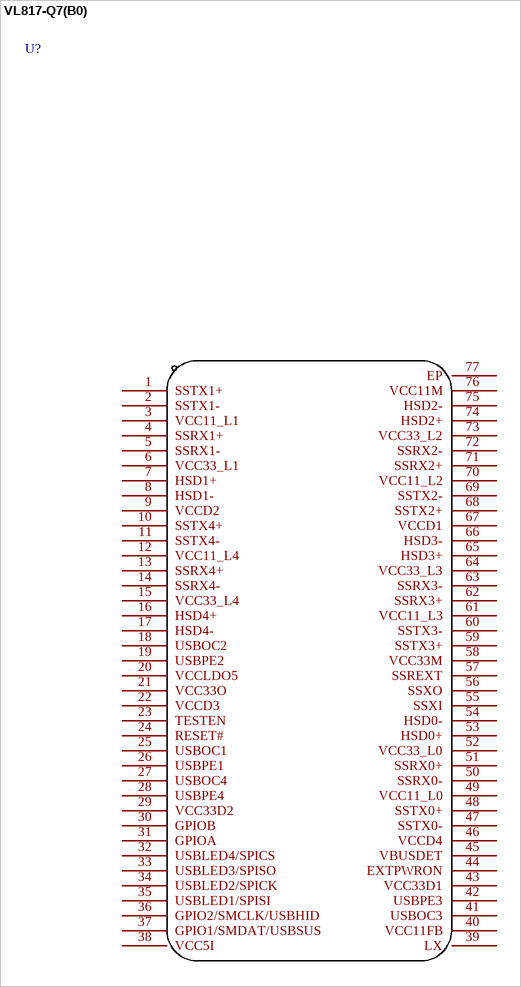
[diagram p5: symbol VL817-Q7(B0)]

## VL817-Q7(B0)
designator U?  (value not drawn)
类型:-;协议类别:-;驱动器/接收器数:-;数据速率:-;; Manufacturer: VIA(台湾威盛电子); Add into BOM: yes; Name: VL817-Q7(B0); Symbol: VL817-Q7(B0); Device: VL817-Q7(B0); LCSC Part Name: VL817-Q7(B0); Supplier Part: C209756; Manufacturer Part: VL817-Q7(B0); Supplier Footprint: QFN-76_9x9x04P; JLCPCB Part Class: 扩展库; Datasheet: https://atta.szlcsc.com/upload/public/pdf/source/20180420/C209756_CB4C8139C09698DDE2BAD3E726D08ED3.pdf; Supplier: LCSC; Convert to PCB: yes; Type: -; Protocol: -; Number of Drivers/Receivers: -; Data Rate: -; Supply Voltage: -
footprint QFN-76_L9.0-W9.0-P0.40-BL-EP
3D model QFN-76_L9.0-W9.0-H0.9-P0.40-BL-EP
pins: 1 SSTX1+, 2 SSTX1-, 3 VCC11_L1, 4 SSRX1+, 5 SSRX1-, 6 VCC33_L1, 7 HSD1+, 8 HSD1-, 9 VCCD2, 10 SSTX4+, 11 SSTX4-, 12 VCC11_L4, 13 SSRX4+, 14 SSRX4-, 15 VCC33_L4, 16 HSD4+, 17 HSD4-, 18 USBOC2, 19 USBPE2, 20 VCCLDO5, 21 VCC33O, 22 VCCD3, 23 TESTEN, 24 RESET#, 25 USBOC1, 26 USBPE1, 27 USBOC4, 28 USBPE4, 29 VCC33D2, 30 GPIOB, 31 GPIOA, 32 USBLED4/SPICS, 33 USBLED3/SPISO, 34 USBLED2/SPICK, 35 USBLED1/SPISI, 36 GPIO2/SMCLK/USBHID, 37 GPIO1/SMDAT/USBSUS, 38 VCC5I, 39 LX, 40 VCC11FB, 41 USBOC3, 42 USBPE3, 43 VCC33D1, 44 EXTPWRON, 45 VBUSDET, 46 VCCD4, 47 SSTX0-, 48 SSTX0+, 49 VCC11_L0, 50 SSRX0-, 51 SSRX0+, 52 VCC33_L0, 53 HSD0+, 54 HSD0-, 55 SSXI, 56 SSXO, 57 SSREXT, 58 VCC33M, 59 SSTX3+, 60 SSTX3-, 61 VCC11_L3, 62 SSRX3+, 63 SSRX3-, 64 VCC33_L3, 65 HSD3+, 66 HSD3-, 67 VCCD1, 68 SSTX2+, 69 SSTX2-, 70 VCC11_L2, 71 SSRX2+, 72 SSRX2-, 73 VCC33_L2, 74 HSD2+, 75 HSD2-, 76 VCC11M, 77 EP